# Altium footprint library WR-WTB.PcbLib: 259 footprints (part 4 of 17)
Each footprint in its own frame and in the unit in brackets; x right, y up, seen from the top. Pads: shape width x height; smd on the part's side, far side on the other; paste and mask are expansions set on the pad; w line width, h text height; cw(c..) or ccw(c..) is an arc to the next point about the centre after c.
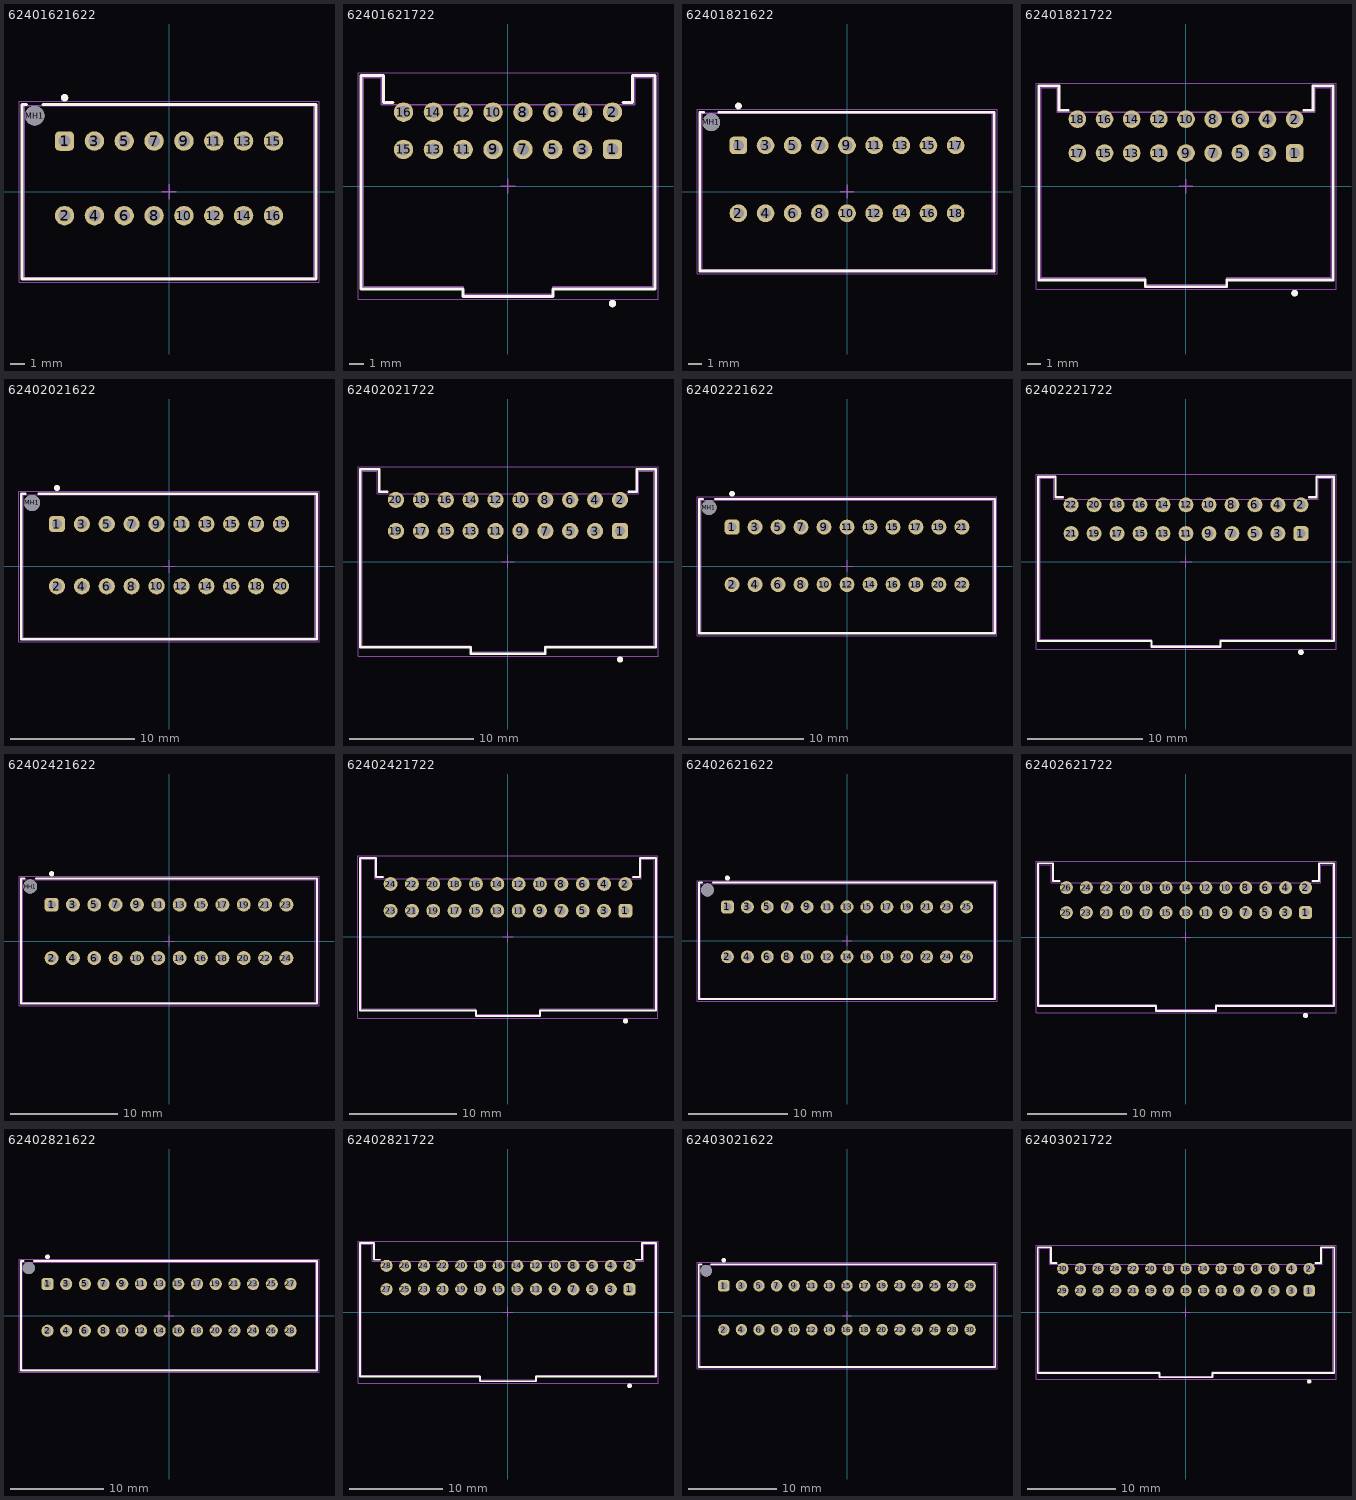
[diagram p3: the footprints below, top view; thin cyan lines are the x and y axes]

## 62401621622 [mm] "2.00mm Male Dual Row Vertical Shrouded Header with positive locking, 16p"
height 11.6
pads (17):
  rrect50% 1.3x1.3 hole 0.8: 1(-7,3.4)
  round 1.3 hole 0.8: 2(-7,-1.6) 3(-5,3.4) 4(-5,-1.6) 5(-3,3.4) 6(-3,-1.6) 7(-1,3.4) 8(-1,-1.6) 9(1,3.4) 10(1,-1.6) 11(3,3.4) 12(3,-1.6) 13(5,3.4) 14(5,-1.6) 15(7,3.4) 16(7,-1.6)
  round 1.3 hole 1.3 unplated: MH1(-9,5.1)
Top Overlay:
  circle w0.25: c-7,6.3 r0.125
  lines w0.2: -9.55,5.85 -9.85,5.85 -9.85,-5.85 9.85,-5.85 9.85,5.85 -8.45,5.85
Top Assembly:
  lines w0.1: -9.7,-5.75 -9.7,5.75 ; -9.7,-5.75 9.7,-5.75 9.7,5.75 -9.7,5.75 ; -9.7,-5.75 -9.7,5.75
Top Designator:
  text ".Designator" at -3.647,-0.357 h1
Top Courtyard:
  lines w0.05: -10.05,-6.05 10.05,-6.05 10.05,6.05 -10.05,6.05 -10.05,-6.05
Top Component Center:
  lines w0.1: -0.5,0 0.5,0 ; 0,-0.5 0,0.5
3D body "62401621622.stp": height 9.78, standoff -3.17, extent -9.7,-5.75 9.7,5.75

## 62401621722 [mm] "2.00mm Male Dual Row Horizontal Shrouded Header with positive locking, 16p"
height 11.7
pads (16):
  rrect50% 1.3x1.3 hole 0.8: 1(7,2.45)
  round 1.3 hole 0.8: 2(7,4.95) 3(5,2.45) 4(5,4.95) 5(3,2.45) 6(3,4.95) 7(1,2.45) 8(1,4.95) 9(-1,2.45) 10(-1,4.95) 11(-3,2.45) 12(-3,4.95) 13(-5,2.45) 14(-5,4.95) 15(-7,2.45) 16(-7,4.95)
Top Overlay:
  circle w0.25: c7,-7.875 r0.125
  lines w0.2: -7.7,5.6 -8.35,5.6 -8.35,7.4 -9.85,7.4 -9.85,-6.9 -3,-6.9 -3,-7.4 3,-7.4 3,-6.9 9.85,-6.9 9.85,7.4 8.35,7.4 8.35,5.6 7.7,5.6
Top Assembly:
  lines w0.1: -9.7,-6.75 -3,-6.75 -3,-7.25 3,-7.25 3,-6.75 9.7,-6.75 9.7,7.25 8.5,7.25 8.5,5.45 -8.5,5.45 -8.5,7.25 -9.7,7.25 -9.7,-6.75
Top Designator:
  text ".Designator" at -3.647,-0.357 h1
Top Courtyard:
  lines w0.05: -10.05,-7.6 10.05,-7.6 10.05,7.6 -10.05,7.6 -10.05,-7.6
Top Component Center:
  lines w0.1: -0.5,0 0.5,0 ; 0,-0.5 0,0.5
3D body "62401621722.stp": height 11.73, standoff -3.17, extent -9.7,-7.25 9.7,7.25

## 62401821622 [mm] "2.00mm Male Dual Row Vertical Shrouded Header with positive locking, 18p"
height 11.6
pads (19):
  rrect50% 1.3x1.3 hole 0.8: 1(-8,3.4)
  round 1.3 hole 0.8: 2(-8,-1.6) 3(-6,3.4) 4(-6,-1.6) 5(-4,3.4) 6(-4,-1.6) 7(-2,3.4) 8(-2,-1.6) 9(0,3.4) 10(0,-1.6) 11(2,3.4) 12(2,-1.6) 13(4,3.4) 14(4,-1.6) 15(6,3.4) 16(6,-1.6) 17(8,3.4) 18(8,-1.6)
  round 1.3 hole 1.3 unplated: MH1(-10,5.1)
Top Overlay:
  circle w0.25: c-8,6.3 r0.125
  lines w0.2: -10.55,5.85 -10.85,5.85 -10.85,-5.85 10.85,-5.85 10.85,5.85 -9.45,5.85
Top Assembly:
  lines w0.1: -10.7,-5.75 -10.7,5.75 ; -10.7,-5.75 10.7,-5.75 10.7,5.75 -10.7,5.75 ; -10.7,-5.75 -10.7,5.75
Top Designator:
  text ".Designator" at -3.647,-0.357 h1
Top Courtyard:
  lines w0.05: -11.05,-6.05 11.05,-6.05 11.05,6.05 -11.05,6.05 -11.05,-6.05
Top Component Center:
  lines w0.1: -0.5,0 0.5,0 ; 0,-0.5 0,0.5
3D body "62401821622.stp": height 9.78, standoff -3.17, extent -10.7,-5.75 10.7,5.75

## 62401821722 [mm] "2.00mm Male Dual Row Horizontal Shrouded Header with positive locking, 18p"
height 11.7
pads (18):
  rrect50% 1.3x1.3 hole 0.8: 1(8,2.45)
  round 1.3 hole 0.8: 2(8,4.95) 3(6,2.45) 4(6,4.95) 5(4,2.45) 6(4,4.95) 7(2,2.45) 8(2,4.95) 9(0,2.45) 10(0,4.95) 11(-2,2.45) 12(-2,4.95) 13(-4,2.45) 14(-4,4.95) 15(-6,2.45) 16(-6,4.95) 17(-8,2.45) 18(-8,4.95)
Top Overlay:
  circle w0.25: c8,-7.875 r0.125
  lines w0.2: -8.7,5.6 -9.35,5.6 -9.35,7.4 -10.85,7.4 -10.85,-6.9 -3,-6.9 -3,-7.4 3,-7.4 3,-6.9 10.85,-6.9 10.85,7.4 9.35,7.4 9.35,5.6 8.7,5.6
Top Assembly:
  lines w0.1: -10.7,-6.75 -10.7,7.25 -9.5,7.25 -9.5,5.45 9.5,5.45 9.5,7.25 10.7,7.25 10.7,-6.75 3,-6.75 3,-7.25 -3,-7.25 -3,-6.75 -10.7,-6.75
Top Designator:
  text ".Designator" at -3.647,-0.357 h1
Top Courtyard:
  lines w0.05: -11.05,-7.6 -11.05,7.6 11.05,7.6 11.05,-7.6 -11.05,-7.6
Top Component Center:
  lines w0.1: -0.5,0 0.5,0 ; 0,-0.5 0,0.5
3D body "62401821722.stp": height 11.73, standoff -3.17, extent -10.7,-7.25 10.7,7.25

## 62402021622 [mm] "2.00mm Male Dual Row Vertical Shrouded Header with positive locking, 20p"
height 11.6
pads (21):
  rrect50% 1.3x1.3 hole 0.8: 1(-9,3.4)
  round 1.3 hole 0.8: 2(-9,-1.6) 3(-7,3.4) 4(-7,-1.6) 5(-5,3.4) 6(-5,-1.6) 7(-3,3.4) 8(-3,-1.6) 9(-1,3.4) 10(-1,-1.6) 11(1,3.4) 12(1,-1.6) 13(3,3.4) 14(3,-1.6) 15(5,3.4) 16(5,-1.6) 17(7,3.4) 18(7,-1.6) 19(9,3.4) 20(9,-1.6)
  round 1.3 hole 1.3 unplated: MH1(-11,5.1)
Top Overlay:
  circle w0.25: c-9,6.3 r0.125
  lines w0.2: -11.55,5.85 -11.85,5.85 -11.85,-5.85 11.85,-5.85 11.85,5.85 -10.45,5.85
Top Assembly:
  lines w0.1: -11.7,-5.75 -11.7,5.75 ; -11.7,-5.75 11.7,-5.75 11.7,5.75 -11.7,5.75 ; -11.7,-5.75 -11.7,5.75
Top Designator:
  text ".Designator" at -3.647,-0.357 h1
Top Courtyard:
  lines w0.05: -12.05,-6.05 12.05,-6.05 12.05,6.05 -12.05,6.05 -12.05,-6.05
Top Component Center:
  lines w0.1: -0.5,0 0.5,0 ; 0,-0.5 0,0.5
3D body "62402021622.stp": height 9.78, standoff -3.17, extent -11.7,-5.75 11.7,5.75

## 62402021722 [mm] "2.00mm Male Dual Row Horizontal Shrouded Header with positive locking, 20p"
height 11.7
pads (20):
  rrect50% 1.3x1.3 hole 0.8: 1(9,2.45)
  round 1.3 hole 0.8: 2(9,4.95) 3(7,2.45) 4(7,4.95) 5(5,2.45) 6(5,4.95) 7(3,2.45) 8(3,4.95) 9(1,2.45) 10(1,4.95) 11(-1,2.45) 12(-1,4.95) 13(-3,2.45) 14(-3,4.95) 15(-5,2.45) 16(-5,4.95) 17(-7,2.45) 18(-7,4.95) 19(-9,2.45) 20(-9,4.95)
Top Overlay:
  circle w0.25: c9,-7.875 r0.125
  lines w0.2: -9.7,5.6 -10.35,5.6 -10.35,7.4 -11.85,7.4 -11.85,-6.9 -3,-6.9 -3,-7.4 3,-7.4 3,-6.9 11.85,-6.9 11.85,7.4 10.35,7.4 10.35,5.6 9.7,5.6
Top Assembly:
  lines w0.1: -11.7,-6.75 -3,-6.75 -3,-7.25 3,-7.25 3,-6.75 11.7,-6.75 11.7,7.25 10.5,7.25 10.5,5.45 -10.5,5.45 -10.5,7.25 -11.7,7.25 -11.7,-6.75
Top Designator:
  text ".Designator" at -3.647,-0.357 h1
Top Courtyard:
  lines w0.05: -12.05,-7.6 12.05,-7.6 12.05,7.6 -12.05,7.6 -12.05,-7.6
Top Component Center:
  lines w0.1: -0.5,0 0.5,0 ; 0,-0.5 0,0.5
3D body "62402021722.stp": height 11.73, standoff -3.17, extent -11.7,-7.25 11.7,7.25

## 62402221622 [mm] "2.00mm Male Dual Row Vertical Shrouded Header with positive locking, 22p"
height 11.6
pads (23):
  rrect50% 1.3x1.3 hole 0.8: 1(-10,3.4)
  round 1.3 hole 0.8: 2(-10,-1.6) 3(-8,3.4) 4(-8,-1.6) 5(-6,3.4) 6(-6,-1.6) 7(-4,3.4) 8(-4,-1.6) 9(-2,3.4) 10(-2,-1.6) 11(0,3.4) 12(0,-1.6) 13(2,3.4) 14(2,-1.6) 15(4,3.4) 16(4,-1.6) 17(6,3.4) 18(6,-1.6) 19(8,3.4) 20(8,-1.6) 21(10,3.4) 22(10,-1.6)
  round 1.3 hole 1.3 unplated: MH1(-12,5.1)
Top Overlay:
  circle w0.25: c-10,6.3 r0.125
  lines w0.2: -12.55,5.85 -12.85,5.85 -12.85,-5.85 12.85,-5.85 12.85,5.85 -11.45,5.85
Top Assembly:
  lines w0.1: -12.7,-5.75 -12.7,5.75 ; -12.7,-5.75 12.7,-5.75 12.7,5.75 -12.7,5.75 ; -12.7,-5.75 -12.7,5.75
Top Designator:
  text ".Designator" at -3.647,-0.357 h1
Top Courtyard:
  lines w0.05: -13.05,-6.05 -13.05,6.05 13.05,6.05 13.05,-6.05 -13.05,-6.05
Top Component Center:
  lines w0.1: -0.5,0 0.5,0 ; 0,-0.5 0,0.5
3D body "62402221622.stp": height 9.78, standoff -3.17, extent -12.7,-5.75 12.7,5.75

## 62402221722 [mm] "2.00mm Male Dual Row Horizontal Shrouded Header with positive locking, 22p"
height 11.7
pads (22):
  rrect50% 1.3x1.3 hole 0.8: 1(10,2.45)
  round 1.3 hole 0.8: 2(10,4.95) 3(8,2.45) 4(8,4.95) 5(6,2.45) 6(6,4.95) 7(4,2.45) 8(4,4.95) 9(2,2.45) 10(2,4.95) 11(0,2.45) 12(0,4.95) 13(-2,2.45) 14(-2,4.95) 15(-4,2.45) 16(-4,4.95) 17(-6,2.45) 18(-6,4.95) 19(-8,2.45) 20(-8,4.95) 21(-10,2.45) 22(-10,4.95)
Top Overlay:
  circle w0.25: c10,-7.875 r0.125
  lines w0.2: -10.7,5.6 -11.35,5.6 -11.35,7.4 -12.85,7.4 -12.85,-6.9 -3,-6.9 -3,-7.4 3,-7.4 3,-6.9 12.85,-6.9 12.85,7.4 11.35,7.4 11.35,5.6 10.7,5.6
Top Assembly:
  lines w0.1: -12.7,-6.75 -3,-6.75 -3,-7.25 3,-7.25 3,-6.75 12.7,-6.75 12.7,7.25 11.5,7.25 11.5,5.45 -11.5,5.45 -11.5,7.25 -12.7,7.25 -12.7,-6.75
Top Designator:
  text ".Designator" at -3.647,-0.357 h1
Top Courtyard:
  lines w0.05: -13.05,-7.6 13.05,-7.6 13.05,7.6 -13.05,7.6 -13.05,-7.6
Top Component Center:
  lines w0.1: -0.5,0 0.5,0 ; 0,-0.5 0,0.5
3D body "62402221722.stp": height 11.73, standoff -3.17, extent -12.7,-7.25 12.7,7.25

## 62402421622 [mm] "2.00mm Male Dual Row Vertical Shrouded Header with positive locking, 24p"
height 11.6
pads (25):
  rrect50% 1.3x1.3 hole 0.8: 1(-11,3.4)
  round 1.3 hole 0.8: 2(-11,-1.6) 3(-9,3.4) 4(-9,-1.6) 5(-7,3.4) 6(-7,-1.6) 7(-5,3.4) 8(-5,-1.6) 9(-3,3.4) 10(-3,-1.6) 11(-1,3.4) 12(-1,-1.6) 13(1,3.4) 14(1,-1.6) 15(3,3.4) 16(3,-1.6) 17(5,3.4) 18(5,-1.6) 19(7,3.4) 20(7,-1.6) 21(9,3.4) 22(9,-1.6) 23(11,3.4) 24(11,-1.6)
  round 1.3 hole 1.3 unplated: MH1(-13,5.1)
Top Overlay:
  circle w0.25: c-11,6.3 r0.125
  lines w0.2: -13.55,5.85 -13.85,5.85 -13.85,-5.85 13.85,-5.85 13.85,5.85 -12.45,5.85
Top Assembly:
  lines w0.1: -13.7,-5.75 -13.7,5.75 ; -13.7,-5.75 13.7,-5.75 13.7,5.75 -13.7,5.75 ; -13.7,-5.75 -13.7,5.75
Top Designator:
  text ".Designator" at -3.647,-0.357 h1
Top Courtyard:
  lines w0.05: -14.05,-6.05 14.05,-6.05 14.05,6.05 -14.05,6.05 -14.05,-6.05
Top Component Center:
  lines w0.1: -0.5,0 0.5,0 ; 0,-0.5 0,0.5
3D body "62402421622.stp": height 9.78, standoff -3.17, extent -13.7,-5.75 13.7,5.75

## 62402421722 [mm] "2.00mm Male Dual Row Horizontal Shrouded Header with positive locking, 24p"
height 11.7
pads (24):
  rrect50% 1.3x1.3 hole 0.8: 1(11,2.45)
  round 1.3 hole 0.8: 2(11,4.95) 3(9,2.45) 4(9,4.95) 5(7,2.45) 6(7,4.95) 7(5,2.45) 8(5,4.95) 9(3,2.45) 10(3,4.95) 11(1,2.45) 12(1,4.95) 13(-1,2.45) 14(-1,4.95) 15(-3,2.45) 16(-3,4.95) 17(-5,2.45) 18(-5,4.95) 19(-7,2.45) 20(-7,4.95) 21(-9,2.45) 22(-9,4.95) 23(-11,2.45) 24(-11,4.95)
Top Overlay:
  circle w0.25: c11,-7.875 r0.125
  lines w0.2: -11.7,5.6 -12.35,5.6 -12.35,7.4 -13.85,7.4 -13.85,-6.9 -3,-6.9 -3,-7.4 3,-7.4 3,-6.9 13.85,-6.9 13.85,7.4 12.35,7.4 12.35,5.6 11.7,5.6
Top Assembly:
  lines w0.1: -13.7,-6.75 -13.7,7.25 -12.5,7.25 -12.5,5.45 12.5,5.45 12.5,7.25 13.7,7.25 13.7,-6.75 3,-6.75 3,-7.25 -3,-7.25 -3,-6.75 -13.7,-6.75
Top Designator:
  text ".Designator" at -3.647,-0.357 h1
Top Courtyard:
  lines w0.05: -14.05,-7.6 -14.05,7.6 14.05,7.6 14.05,-7.6 -14.05,-7.6
Top Component Center:
  lines w0.1: -0.5,0 0.5,0 ; 0,-0.5 0,0.5
3D body "62402421722.stp": height 11.73, standoff -3.17, extent -13.7,-7.25 13.7,7.25

## 62402621622 [mm] "2.00mm Male Dual Row Vertical Shrouded Header with positive locking, 26p"
height 11.6
pads (27):
  rrect50% 1.3x1.3 hole 0.8: 1(-12,3.4)
  round 1.3 hole 0.8: 2(-12,-1.6) 3(-10,3.4) 4(-10,-1.6) 5(-8,3.4) 6(-8,-1.6) 7(-6,3.4) 8(-6,-1.6) 9(-4,3.4) 10(-4,-1.6) 11(-2,3.4) 12(-2,-1.6) 13(0,3.4) 14(0,-1.6) 15(2,3.4) 16(2,-1.6) 17(4,3.4) 18(4,-1.6) 19(6,3.4) 20(6,-1.6) 21(8,3.4) 22(8,-1.6) 23(10,3.4) 24(10,-1.6) 25(12,3.4) 26(12,-1.6)
  round 1.3 hole 1.3 unplated: MH1(-14,5.1)
Top Overlay:
  circle w0.25: c-12,6.3 r0.125
  lines w0.2: -14.55,5.85 -14.85,5.85 -14.85,-5.85 14.85,-5.85 14.85,5.85 -13.45,5.85
Top Assembly:
  lines w0.1: -14.7,-5.75 -14.7,5.75 ; -14.7,-5.75 14.7,-5.75 14.7,5.75 -14.7,5.75 ; -14.7,-5.75 -14.7,5.75
Top Designator:
  text ".Designator" at -3.647,-0.357 h1
Top Courtyard:
  lines w0.05: -15.05,-6.05 -15.05,6.05 15.05,6.05 15.05,-6.05 -15.05,-6.05
Top Component Center:
  lines w0.1: -0.5,0 0.5,0 ; 0,-0.5 0,0.5
3D body "62402621622.stp": height 9.78, standoff -3.17, extent -14.7,-5.75 14.7,5.75

## 62402621722 [mm] "2.00mm Male Dual Row Horizontal Shrouded Header with positive locking, 26p"
height 11.7
pads (26):
  rrect50% 1.3x1.3 hole 0.8: 1(12,2.45)
  round 1.3 hole 0.8: 2(12,4.95) 3(10,2.45) 4(10,4.95) 5(8,2.45) 6(8,4.95) 7(6,2.45) 8(6,4.95) 9(4,2.45) 10(4,4.95) 11(2,2.45) 12(2,4.95) 13(0,2.45) 14(0,4.95) 15(-2,2.45) 16(-2,4.95) 17(-4,2.45) 18(-4,4.95) 19(-6,2.45) 20(-6,4.95) 21(-8,2.45) 22(-8,4.95) 23(-10,2.45) 24(-10,4.95) 25(-12,2.45) 26(-12,4.95)
Top Overlay:
  circle w0.25: c12,-7.875 r0.125
  lines w0.2: -12.7,5.6 -13.35,5.6 -13.35,7.4 -14.85,7.4 -14.85,-6.9 -3,-6.9 -3,-7.4 3,-7.4 3,-6.9 14.85,-6.9 14.85,7.4 13.35,7.4 13.35,5.6 12.7,5.6
Top Assembly:
  lines w0.1: -14.7,-6.75 -14.7,7.25 -13.5,7.25 -13.5,5.45 13.5,5.45 13.5,7.25 14.7,7.25 14.7,-6.75 3,-6.75 3,-7.25 -3,-7.25 -3,-6.75 -14.7,-6.75
Top Designator:
  text ".Designator" at -3.647,-0.357 h1
Top Courtyard:
  lines w0.05: -15.05,-7.6 -15.05,7.6 15.05,7.6 15.05,-7.6 -15.05,-7.6
Top Component Center:
  lines w0.1: -0.5,0 0.5,0 ; 0,-0.5 0,0.5
3D body "62402621722.stp": height 11.73, standoff -3.17, extent -14.7,-7.25 14.7,7.25

## 62402821622 [mm] "2.00mm Male Dual Row Vertical Shrouded Header with positive locking, 28p"
height 11.6
pads (29):
  rrect50% 1.3x1.3 hole 0.8: 1(-13,3.4)
  round 1.3 hole 0.8: 2(-13,-1.6) 3(-11,3.4) 4(-11,-1.6) 5(-9,3.4) 6(-9,-1.6) 7(-7,3.4) 8(-7,-1.6) 9(-5,3.4) 10(-5,-1.6) 11(-3,3.4) 12(-3,-1.6) 13(-1,3.4) 14(-1,-1.6) 15(1,3.4) 16(1,-1.6) 17(3,3.4) 18(3,-1.6) 19(5,3.4) 20(5,-1.6) 21(7,3.4) 22(7,-1.6) 23(9,3.4) 24(9,-1.6) 25(11,3.4) 26(11,-1.6) 27(13,3.4) 28(13,-1.6)
  round 1.3 hole 1.3 unplated: MH1(-15,5.1)
Top Overlay:
  circle w0.25: c-13,6.3 r0.125
  lines w0.2: -15.55,5.85 -15.85,5.85 -15.85,-5.85 15.85,-5.85 15.85,5.85 -14.45,5.85
Top Assembly:
  lines w0.1: -15.7,-5.75 -15.7,5.75 ; -15.7,-5.75 15.7,-5.75 15.7,5.75 -15.7,5.75 ; -15.7,-5.75 -15.7,5.75
Top Designator:
  text ".Designator" at -3.647,-0.357 h1
Top Courtyard:
  lines w0.05: -16.05,-6.05 16.05,-6.05 16.05,6.05 -16.05,6.05 -16.05,-6.05
Top Component Center:
  lines w0.1: -0.5,0 0.5,0 ; 0,-0.5 0,0.5
3D body "62402821622.stp": height 9.78, standoff -3.17, extent -15.7,-5.75 15.7,5.75

## 62402821722 [mm] "2.00mm Male Dual Row Horizontal Shrouded Header with positive locking, 28p"
height 11.7
pads (28):
  rrect50% 1.3x1.3 hole 0.8: 1(13,2.45)
  round 1.3 hole 0.8: 2(13,4.95) 3(11,2.45) 4(11,4.95) 5(9,2.45) 6(9,4.95) 7(7,2.45) 8(7,4.95) 9(5,2.45) 10(5,4.95) 11(3,2.45) 12(3,4.95) 13(1,2.45) 14(1,4.95) 15(-1,2.45) 16(-1,4.95) 17(-3,2.45) 18(-3,4.95) 19(-5,2.45) 20(-5,4.95) 21(-7,2.45) 22(-7,4.95) 23(-9,2.45) 24(-9,4.95) 25(-11,2.45) 26(-11,4.95) 27(-13,2.45) 28(-13,4.95)
Top Overlay:
  circle w0.25: c13,-7.875 r0.125
  lines w0.2: -13.7,5.6 -14.35,5.6 -14.35,7.4 -15.85,7.4 -15.85,-6.9 -3,-6.9 -3,-7.4 3,-7.4 3,-6.9 15.85,-6.9 15.85,7.4 14.35,7.4 14.35,5.6 13.7,5.6
Top Assembly:
  lines w0.1: -15.7,-6.75 -3,-6.75 -3,-7.25 3,-7.25 3,-6.75 15.7,-6.75 15.7,7.25 14.5,7.25 14.5,5.45 -14.5,5.45 -14.5,7.25 -15.7,7.25 -15.7,-6.75
Top Designator:
  text ".Designator" at -3.647,-0.357 h1
Top Courtyard:
  lines w0.05: -16.05,-7.6 16.05,-7.6 16.05,7.6 -16.05,7.6 -16.05,-7.6
Top Component Center:
  lines w0.1: -0.5,0 0.5,0 ; 0,-0.5 0,0.5
3D body "62402821722.stp": height 11.73, standoff -3.17, extent -15.7,-7.25 15.7,7.25

## 62403021622 [mm] "2.00mm Male Dual Row Vertical Shrouded Header with positive locking, 30p"
height 11.6
pads (31):
  rrect50% 1.3x1.3 hole 0.8: 1(-14,3.4)
  round 1.3 hole 0.8: 2(-14,-1.6) 3(-12,3.4) 4(-12,-1.6) 5(-10,3.4) 6(-10,-1.6) 7(-8,3.4) 8(-8,-1.6) 9(-6,3.4) 10(-6,-1.6) 11(-4,3.4) 12(-4,-1.6) 13(-2,3.4) 14(-2,-1.6) 15(0,3.4) 16(0,-1.6) 17(2,3.4) 18(2,-1.6) 19(4,3.4) 20(4,-1.6) 21(6,3.4) 22(6,-1.6) 23(8,3.4) 24(8,-1.6) 25(10,3.4) 26(10,-1.6) 27(12,3.4) 28(12,-1.6) 29(14,3.4) 30(14,-1.6)
  round 1.3 hole 1.3 unplated: MH1(-16,5.1)
Top Overlay:
  circle w0.25: c-14,6.3 r0.125
  lines w0.2: -16.55,5.85 -16.85,5.85 -16.85,-5.85 16.85,-5.85 16.85,5.85 -15.45,5.85
Top Assembly:
  lines w0.1: -16.7,-5.75 -16.7,5.75 ; -16.7,-5.75 16.7,-5.75 16.7,5.75 -16.7,5.75 ; -16.7,-5.75 -16.7,5.75
Top Designator:
  text ".Designator" at -3.647,-0.357 h1
Top Courtyard:
  lines w0.05: -17.05,-6.05 17.05,-6.05 17.05,6.05 -17.05,6.05 -17.05,-6.05
Top Component Center:
  lines w0.1: -0.5,0 0.5,0 ; 0,-0.5 0,0.5
3D body "62403021622.stp": height 9.78, standoff -3.17, extent -16.7,-5.75 16.7,5.75

## 62403021722 [mm] "2.00mm Male Dual Row Horizontal Shrouded Header with positive locking, 30p"
height 11.7
pads (30):
  rrect50% 1.3x1.3 hole 0.8: 1(14,2.45)
  round 1.3 hole 0.8: 2(14,4.95) 3(12,2.45) 4(12,4.95) 5(10,2.45) 6(10,4.95) 7(8,2.45) 8(8,4.95) 9(6,2.45) 10(6,4.95) 11(4,2.45) 12(4,4.95) 13(2,2.45) 14(2,4.95) 15(0,2.45) 16(0,4.95) 17(-2,2.45) 18(-2,4.95) 19(-4,2.45) 20(-4,4.95) 21(-6,2.45) 22(-6,4.95) 23(-8,2.45) 24(-8,4.95) 25(-10,2.45) 26(-10,4.95) 27(-12,2.45) 28(-12,4.95) 29(-14,2.45) 30(-14,4.95)
Top Overlay:
  circle w0.25: c14,-7.875 r0.125
  lines w0.2: -14.7,5.6 -15.35,5.6 -15.35,7.4 -16.85,7.4 -16.85,-6.9 -3,-6.9 -3,-7.4 3,-7.4 3,-6.9 16.85,-6.9 16.85,7.4 15.35,7.4 15.35,5.6 14.7,5.6
Top Assembly:
  lines w0.1: -16.7,-6.75 -3,-6.75 -3,-7.25 3,-7.25 3,-6.75 16.7,-6.75 16.7,7.25 15.5,7.25 15.5,5.45 -15.5,5.45 -15.5,7.25 -16.7,7.25 -16.7,-6.75
Top Designator:
  text ".Designator" at -3.647,-0.357 h1
Top Courtyard:
  lines w0.05: -17.05,-7.6 17.05,-7.6 17.05,7.6 -17.05,7.6 -17.05,-7.6
Top Component Center:
  lines w0.1: -0.5,0 0.5,0 ; 0,-0.5 0,0.5
3D body "62403021722.stp": height 11.73, standoff -3.17, extent -16.7,-7.25 16.7,7.25